# Altium footprint library HC49.PcbLib: 1 footprints
Each footprint in its own frame and in the unit in brackets; x right, y up, seen from the top. Pads: shape width x height; smd on the part's side, far side on the other; paste and mask are expansions set on the pad; w line width, h text height; cw(c..) or ccw(c..) is an arc to the next point about the centre after c.
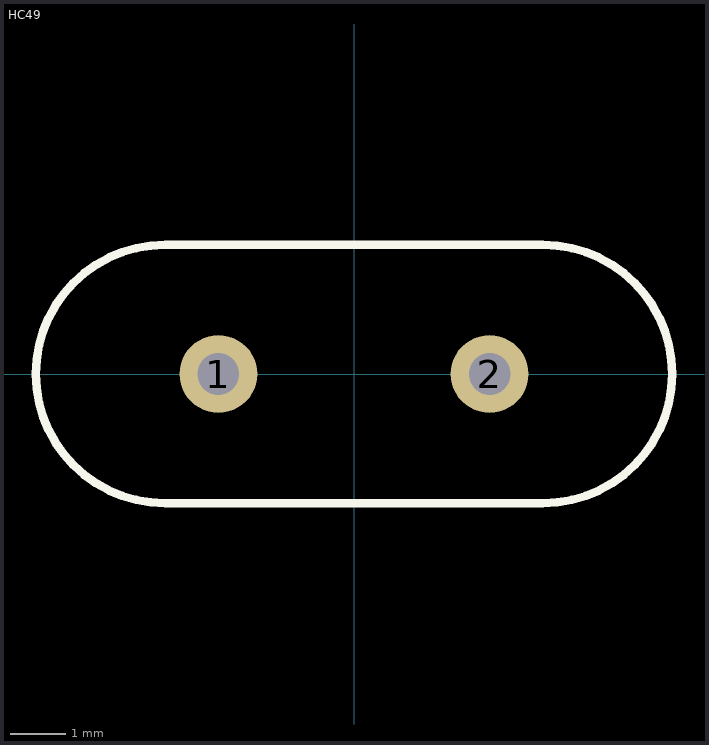
[diagram p0: the footprint, top view; thin cyan lines are the x and y axes]

## HC49 [mm] "Standard HC49 TH Xtal"
height 4
pads (2):
  round 1.4 hole 0.75: 1(-2.44,0) 2(2.44,0)
Top Overlay:
  lines w0.152: -3.4,-2.325 cw(c-3.4,0) -3.4,2.325 3.4,2.325 cw(c3.4,0) 3.4,-2.325 -3.4,-2.325
3D body: height 3.5, standoff -4, extent -5.675,-2.325 5.675,2.325